# Altium footprint library 100uF 16V cap TH.PcbLib: 2 footprints
Each footprint in its own frame and in the unit in brackets; x right, y up, seen from the top. Pads: shape width x height; smd on the part's side, far side on the other; paste and mask are expansions set on the pad; w line width, h text height; cw(c..) or ccw(c..) is an arc to the next point about the centre after c.
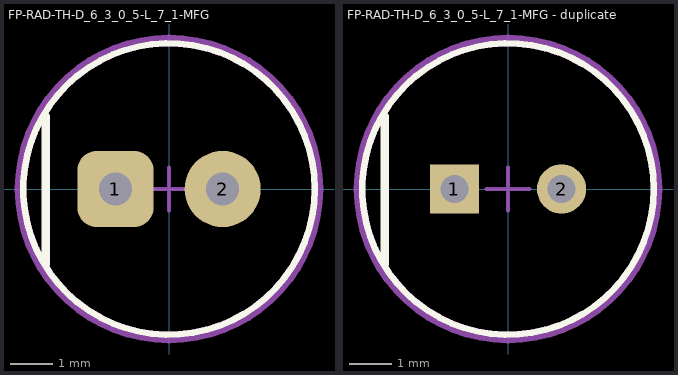
[diagram p0: the footprints below, top view; thin cyan lines are the x and y axes]

## FP-RAD-TH-D_6_3_0_5-L_7_1-MFG [mil]
pads (2):
  rrect50% 70x70 hole 30 paste-99999 mask+0: 1(-49.21,0)
  round 70 hole 30 paste-99999 mask+0: 2(49.21,0)
Top Overlay:
  circle w5.91: c0,0 r133.86
  lines w7.87: -113.19,-68.9 -113.19,66.93
Top Assembly:
  text ".Designator" at 0,7.39 h39.37
Top 3D Body:
  circle w5.91: c0,0 r133.86
Top Courtyard:
  lines w7.87: -137.8,0 cw(c0,0) 137.8,0 cw(c0,0) -137.8,0
Top Component Center:
  lines w3.94: -19.68,0 19.68,0 ; 0,-19.68 0,19.68
3D body "Cap_Panasonic_ECEA1AKA101E_eec.STEP": height 10, standoff 0, extent -137.8,-137.8 137.8,137.8

## FP-RAD-TH-D_6_3_0_5-L_7_1-MFG - duplicate [mm]
pads (2):
  rect 1.15x1.15 hole 0.65 paste-2539.97 mask+0: 1(-1.25,0)
  round 1.15 hole 0.65 paste-2539.97 mask+0: 2(1.25,0)
Top Overlay:
  circle w0.15: c0,0 r3.4
  lines w0.2: -2.875,-1.75 -2.875,1.7
Top Assembly:
  text ".Designator" at 0,0.188 h1
Top 3D Body:
  circle w0.15: c0,0 r3.4
Top Courtyard:
  lines w0.2: -3.5,0 ccw(c0,0) 3.5,0 ccw(c0,0) -3.5,0
Top Component Center:
  lines w0.1: -0.5,0 0.5,0 ; 0,-0.5 0,0.5
3D body "Cap_Panasonic_ECEA1AKA101E_eec.STEP": height 0.25, standoff 0, extent -3.5,-3.5 3.5,3.5